# Altium footprint library L34.PcbLib: 5 footprints
Each footprint in its own frame and in the unit in brackets; x right, y up, seen from the top. Pads: shape width x height; smd on the part's side, far side on the other; paste and mask are expansions set on the pad; w line width, h text height; cw(c..) or ccw(c..) is an arc to the next point about the centre after c.
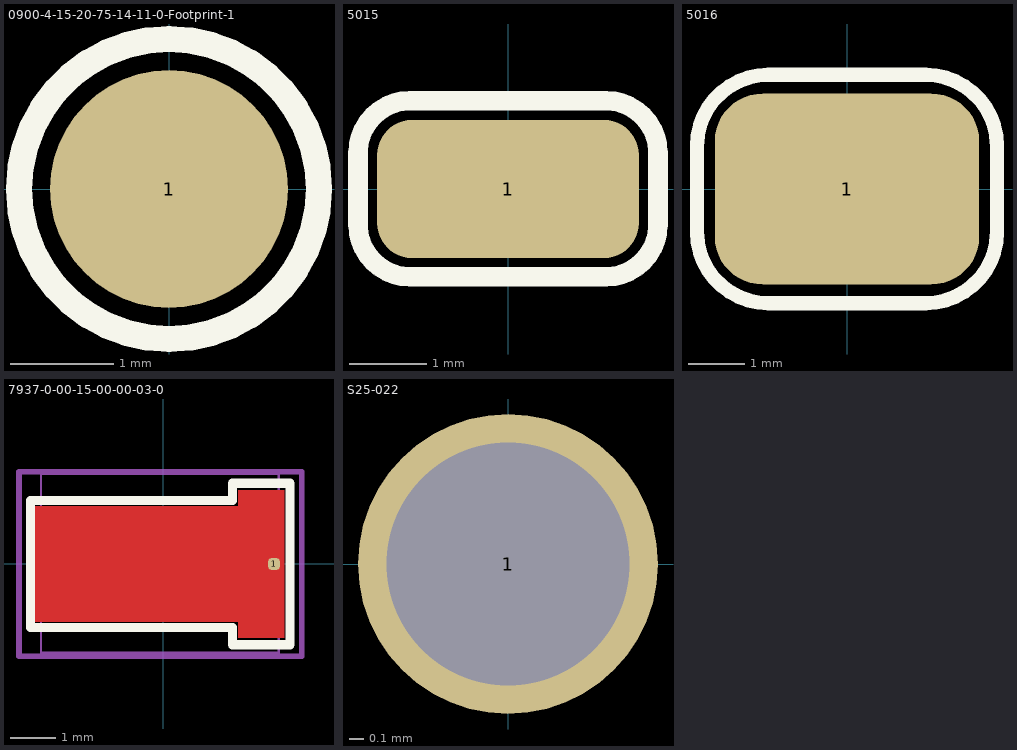
[diagram p0: the footprints below, top view; thin cyan lines are the x and y axes]

## 0900-4-15-20-75-14-11-0-Footprint-1 [mm]
pads (1):
  round 2.3 smd: 1(0,0)
Top Overlay:
  circle w0.254: c0,0 r1.45
3D body "mill-max-0900-4-15-20-75-14-11-0.step": height 5.99, standoff 0, extent -0.914,-0.914 0.915,0.915

## 5015 [mm] "SMD Testpoint"
pads (1):
  rrect50% 3.4x1.8 smd: 1(0,0)
Top Overlay:
  lines w0.254: 1.243,-1.143 -1.27,-1.143 cw(c-1.27,-0.463) -1.95,-0.463 -1.95,0.47 cw(c-1.27,0.47) -1.27,1.15 1.27,1.15 cw(c1.27,0.47) 1.95,0.47 1.95,-0.25 1.95,-0.463 cw(c1.27,-0.463) 1.27,-1.143
3D body "User Library-keystone_5015.SLDPRT": height 1.52, standoff 0, extent -1.332,-0.508 1.332,0.508

## 5016 [mm] "SMD Testpoint"
pads (1):
  rrect50% 4.7x3.4 smd: 1(0,0)
Top Overlay:
  lines w0.254: -1.143,2.032 1.397,2.032 cw(c1.397,0.762) 2.667,0.762 2.667,-0.762 cw(c1.397,-0.762) 1.397,-2.032 -1.397,-2.032 cw(c-1.397,-0.762) -2.667,-0.762 -2.667,0.762 cw(c-1.397,0.762) -1.397,2.032 -1.016,2.032
3D body "User Library-GP.SLDPRT": height 2.3, standoff 0, extent -1.905,-1.397 1.895,1.403

## 7937-0-00-15-00-00-03-0 [mil]
pads (1):
  rrect50% 10x10 smd paste-10 mask+2.76: 1(96,0)
Top Layer:
  region: -111,50 65,50 65,64 105,64 105,-64 65,-64 65,-50 -111,-50
Top Overlay:
  lines w7.87: -115,-55 -115,55 60,55 60,70 110,70 110,15 110,-70 60,-70 60,-55 -115,-55
Top Paste:
  region: 95,-50 95,50 75,50 75,-50
  rectangle: 15,20 55,40
  rectangle: 15,-10 55,10
  rectangle: 15,-40 55,-20
  rectangle: -35,-40 5,-20
  rectangle: -35,-10 5,10
  rectangle: -95,-10 -55,10
  rectangle: -35,20 5,40
  rectangle: -95,-40 -55,-20
  rectangle: -95,20 -55,40
Mechanical 2:
  lines w2: -106,-77 -106,78 100,78 100,-77 -106,-77
Mechanical 4:
  lines w5: -10,0 10,0 ; 0,-10 0,10 ; -125,-80 -125,80 120,80 120,-80 -125,-80
3D body "mill-max-7937-0-00-15-00-00-03-0.step": height 100, standoff 0, extent -106,-77 100,78

## S25-022 [mm]
pads (1):
  round 2.1 hole 1.7: 1(0,0)
3D body "s25-022.stp": height 5.5, standoff -18.2, extent -0.915,-0.915 0.915,0.915
3D body "p25-0123.stp": height 11.7, standoff -13, extent -0.68,-0.68 0.68,0.68